# Altium integrated library Resistors-potenciometers.IntLib: 402 symbols (part 3 of 5)
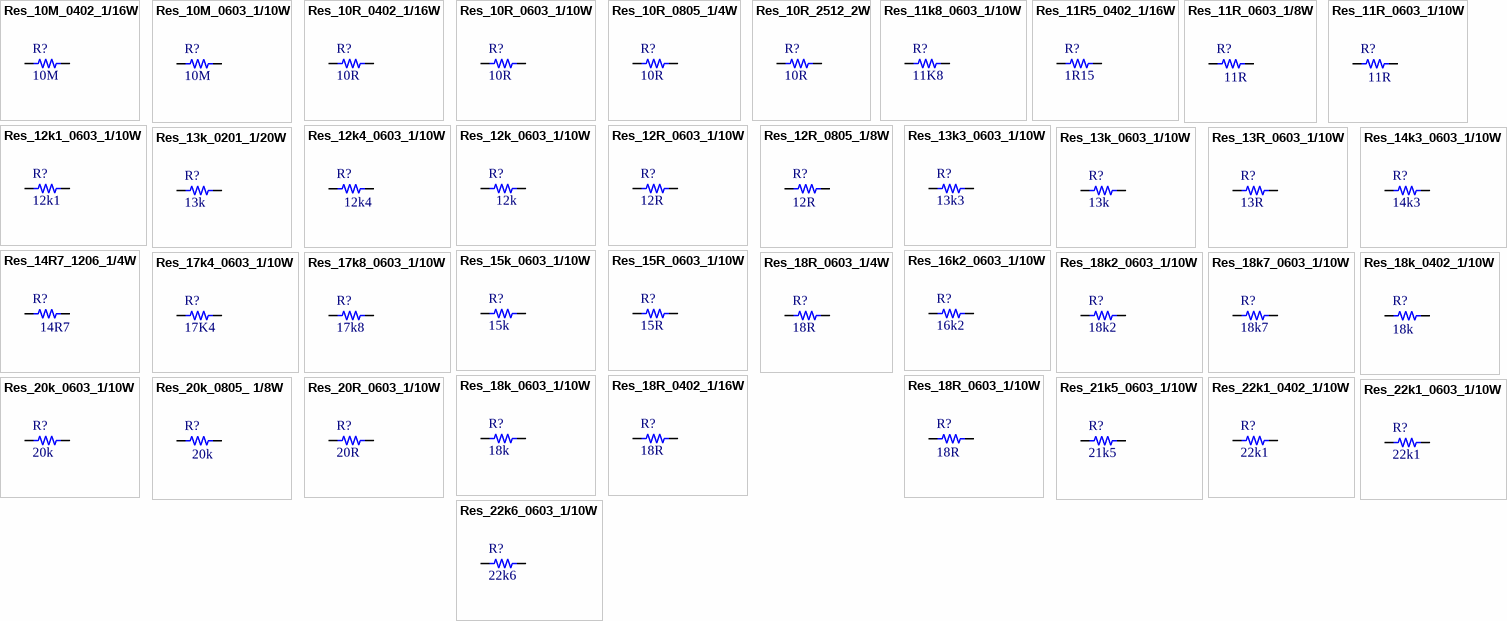
[diagram p12: symbols Res_10M_0402_1/16W to Res_22k6_0603_1/10W]

## Res_13k_0201_1/20W
designator R?, comment value 13k  (hidden comment: 13k 1/20W)
RES SMD 13K OHM 1% 1/20W 0201; Manufacturer: YAGEO; Manufacturer Part Number: AC0201FR-0713KL; Supplier 1: DIGI-KEY; Supplier Part Number 1: YAG5154CT-ND; Reel Stock: N/A; Last modified by: J.Jaramillo; Last modified date: 20240310; ComponentLink1Description: Digi-Key; ComponentLink1URL: https://www.digikey.com/en/products/detail/yageo/AC0201FR-0713KL/5894273?s=N4IgTCBcDaIJoEEDiBWAjCgLAYQCoFoA5AERAF0BfIA
footprint 0201 (20211214 / A-F.Romo)
pins: 1, 2

## Res_13k_0603_1/10W
designator R?, comment value 13k  (hidden comment: 13k 1/10W)
RES 13K OHM 1% 1/10W 0603; Manufacturer: Stackpole Electronics Inc; Manufacturer Part Number: RMCF0603FT13K0; Supplier 1: Digi-Key; Supplier Part Number 1: RMCF0603FT13K0CT-ND; Reel Stock: N/A; Last modified by: J.Jaramillo; Last modified date: 20240310; ComponentLink1Description: Digi-Key; ComponentLink1URL: https://www.digikey.com/product-detail/en/stackpole-electronics-inc/RMCF0603FT13K0/RMCF0603FT13K0CT-ND/1943065
footprint 0603 (1608 Metric / 20190222 / N-A.Potosi)
pins: 1, 2

## Res_13R_0603_1/10W
designator R?, comment value 13R  (hidden comment: 13R 1/10W)
RES 13 OHM 1% 1/10W 0603; Manufacturer: YAGEO; Manufacturer Part Number: RC0603FR-0713RL; Supplier 1: Digi-Key; Supplier Part Number 1: 311-13.0HRCT-ND; Reel Stock: N/A; Last modified by: J.Jaramillo; Last modified date: 20240310; ComponentLink1Description: Digi-Key; ComponentLink1URL: https://www.digikey.com/en/products/detail/yageo/RC0603FR-0713RL/726928
footprint 0603 (1608 Metric / 20190222 / N-A.Potosi)
pins: 1, 2

## Res_14k3_0603_1/10W
designator R?, comment value 14k3  (hidden comment: 14k3 1/10 W)
RES SMD 14.3K OHM 1% 1/10W 0603; Manufacturer: Yageo; Manufacturer Part Number: RC0603FR-0714K3L; Supplier 1: Digi-Key; Supplier Part Number 1: 311-14.3KHRCT-ND; Reel Stock: N/A; Last modified by: J.Jaramillo; Last modified date: 20240310; ComponentLink1Description: Digi-key; ComponentLink1URL: https://www.digikey.com/product-detail/en/yageo/RC0603FR-0714K3L/311-14.3KHRCT-ND/729890
footprint 0603
pins: 1, 2

## Res_14R7_1206_1/4W
designator R?, comment value 14R7  (hidden comment: 14R7 1/4W)
RES 14.7 OHM 1% 1/4W 1206; Manufacturer: KOA Speer Electronics, Inc.; Manufacturer Part Number: RK73H2BTTD14R7F; Supplier 1: Digi-Key; Supplier Part Number 1: 2019-RK73H2BTTD14R7FCT-ND; Reel Stock: N/A; Last modified by: J.Jaramillo; Last modified date: 20240310; ComponentLink1Description: Digi-Key; ComponentLink1URL: *
footprint 1206_0.8mm (3216 metric/20230303/J-A.Sepulveda)
pins: 1, 2

## Res_15k_0603_1/10W
designator R?, comment value 15k  (hidden comment: 15k 1/10W)
RES SMD 15K OHM 1% 1/10W 0603; Manufacturer: Yageo; Manufacturer Part Number: RC0603FR-0715KL; Supplier 1: Digi-Key; Supplier Part Number 1: 311-15.0KHRCT-ND; Reel Stock: N/A; Last modified by: J.Jaramillo; Last modified date: 20240310; ComponentLink1Description: Digi-Key; ComponentLink1URL: https://www.digikey.com/product-detail/en/yageo/RC0603FR-0715KL/311-15.0KHRTR-ND/726953
footprint 0603
pins: 1, 2

## Res_15R_0603_1/10W
designator R?, comment value 15R  (hidden comment: 15R 1/10W)
RES SMD 15 OHM 1% 1/10W 0603; Manufacturer: Yageo; Manufacturer Part Number: RC0603FR-0715RL; ComponentLink1URL: https://www.digikey.com/en/products/detail/yageo/RC0603FR-0715RL/726952?s=N4IgTCBcDaIEoGEAMA2JBmAYnAtEg7AIwCscAMiALoC%2BQA; Reel Stock: N/A; Last modified by: J.Jaramillo; Last modified date: 20240310; ComponentLink1Description: Digi-key; Supplier 1: Digi-Key; Supplier Part Number 1: 311-15.0HRCT-ND
footprint 0603
pins: 1, 2

## Res_16k2_0603_1/10W
designator R?, comment value 16k2  (hidden comment: 16k2 1/10W)
RES SMD 16.2K OHM 1% 1/10W 0603; Manufacturer: Yageo; Manufacturer Part Number: RC0603FR-0716K2L; Supplier 1: Digi-key; Supplier Part Number 1: 311-16.2KHRCT-ND; Reel Stock: N/A; Last modified by: J.Jaramillo; Last modified date: 20240310; ComponentLink1Description: Digi-key; ComponentLink1URL: https://www.digikey.com/product-detail/en/yageo/RC0603FR-0716K2L/311-16.2KHRCT-ND/729914
footprint 0603 (1608 Metric / 20190222 / N-A.Potosi)
pins: 1, 2

## Res_17k4_0603_1/10W
designator R?, comment value 17K4  (hidden comment: 1/10W)
RES 17.4K OHM 1% 1/10W 0603; Manufacturer: Stackpole Electronics Inc; Manufacturer Part Number: RMCF0603FT17K4; Reel Stock: N/A; Last modified by: J.Jaramillo; Last modified date: 20240310; ComponentLink1Description: Digi-Key; ComponentLink1URL: https://www.digikey.com/en/products/detail/stackpole-electronics-inc/RMCF0603FT17K4/1761040; Supplier 1: Digi-Key; Supplier Part Number 1: RMCF0603FT17K4CT-ND
footprint 0603
pins: 1, 2

## Res_17k8_0603_1/10W
designator R?, comment value 17k8  (hidden comment: 17k8 1/10W)
RES SMD 17.8K OHM 1% 1/10W 0603; Manufacturer: Panasonic Electronic Components; Manufacturer Part Number: ERJ-3EKF1782V; Reel Stock: N/A; Last modified by: J.Jaramillo; Last modified date: 20240310; ComponentLink1Description: Digi-key; ComponentLink1URL: https://www.digikey.com/products/en?keywords=P17.8KHCT-ND; Supplier 1: Digi-Key; Supplier Part Number 1: P17.8KHCT-ND
footprint 0603 (1608 Metric / 20190222 / N-A.Potosi)
pins: 1, 2

## Res_18k2_0603_1/10W
designator R?, comment value 18k2  (hidden comment: 18k2 1/10W)
RES 18.2K OHM 1% 1/10W 0603; Manufacturer: Stackpole Electronics Inc; Manufacturer Part Number: RMCF0603FT18K2; Supplier 1: Digi-Key; Supplier Part Number 1: RMCF0603FT18K2CT-ND; Reel Stock: N/A; Last modified by: J.Jaramillo; Last modified date: 20240310; ComponentLink1Description: Digi-Key; ComponentLink1URL: https://www.digikey.com/en/products/detail/stackpole-electronics-inc/RMCF0603FT18K2/1761004
footprint 0603 (1608 Metric / 20190222 / N-A.Potosi)
pins: 1, 2

## Res_18k7_0603_1/10W
designator R?, comment value 18k7  (hidden comment: 18k7 1/10W)
RES 18.7K OHM 1% 1/10W 0603; Manufacturer: Stackpole Electronics Inc; Manufacturer Part Number: RMCF0603FT18K7; Supplier 1: Digi-Key; Supplier Part Number 1: RMCF0603FT18K7CT-ND; Reel Stock: N/A; Last modified by: J.Jaramillo; Last modified date: 20240310; ComponentLink1Description: Digi-key; ComponentLink1URL: https://www.digikey.com/product-detail/en/stackpole-electronics-inc/RMCF0603FT18K7/RMCF0603FT18K7CT-ND/2417955
footprint 0603 (1608 Metric / 20190222 / N-A.Potosi)
pins: 1, 2

## Res_18k_0402_1/10W
designator R?, comment value 18k  (hidden comment: 18k 1/10W)
RES 18K OHM 1% 1/10W 0402; Manufacturer: KOA Speer Electronics, Inc.; Manufacturer Part Number: RK73H1ETTP1802F; ComponentLink1URL: https://www.digikey.com/product-detail/en/koa-speer-electronics-inc/RK73H1ETTP1802F/2019-RK73H1ETTP1802FCT-ND/9846178; Supplier 1: Digi-key; Supplier Part Number 1: 2019-RK73H1ETTP1802FCT-ND; Reel Stock: N/A; Last modified by: J.Jaramillo; Last modified date: 20240310; ComponentLink1Description: Digi-key
footprint 0402
footprint 0402_RF
footprint 0402_RF2 (1005 Metric / 20190222 / N-A.Potosi)
pins: 1, 2

## Res_18k_0603_1/10W
designator R?, comment value 18k  (hidden comment: 18k 1/10W)
RES SMD 18K OHM 1% 1/10W 0603; Manufacturer Part Number: RC0603FR-0718KL; Manufacturer: Yageo; Reel Stock: N/A; Last modified by: J.Jaramillo; Last modified date: 20240310; ComponentLink1Description: Digi-Key; ComponentLink1URL: https://www.digikey.com/en/products/detail/yageo/RC0603FR-0718KL/726989?s=N4IgTCBcDaIEoGEAMA2JBmAYnAtEg7AIwAcA0gDIgC6AvkA; Supplier 1: Digi-Key; Supplier Part Number 1: 311-18.0KHRCT-ND
footprint 0603
pins: 1, 2

## Res_18R_0402_1/16W
designator R?, comment value 18R  (hidden comment: 18R 1/16W)
RES SMD 18 OHM 1% 1/16W 0402; Manufacturer: Yageo; Manufacturer Part Number: RC0402FR-0718RL; Supplier 1: Digikey; Supplier Part Number 1: YAG3021CT-ND; Reel Stock: N/A; Last modified by: J.Jaramillo; Last modified date: 20240310; ComponentLink1Description: Digikey; ComponentLink1URL: https://www.digikey.com/en/products/detail/yageo/RC0402FR-0718RL/5280881
footprint 0402 (1005 Metric / 20190222 / N-A.Potosi)
footprint 0402_RF (1005 Metric / 20190222 / N-A.Potosi)
footprint 0402_RF2 (1005 Metric / 20190222 / N-A.Potosi)
pins: 1, 2

## Res_18R_0603_1/4W
designator R?, comment value 18R  (hidden comment: 18R 1/4W)
RES SMD 18 OHM 5% 1/4W 0603; Manufacturer: Rohm Semiconductor; Manufacturer Part Number: ESR03EZPJ180; Supplier 1: Digi-Key; Supplier Part Number 1: RHM18DCT-ND; Reel Stock: N/A; Last modified by: J.Jaramillo; Last modified date: 20240310; ComponentLink1Description: Digi-Key; ComponentLink1URL: https://www.digikey.com/en/products/detail/rohm-semiconductor/ESR03EZPJ180/4051203
footprint 0603 (1608 Metric / 20190222 / N-A.Potosi)
pins: 1, 2

## Res_18R_0603_1/10W
designator R?, comment value 18R  (hidden comment: 18R 1/10W)
RES SMD 18 OHM 1% 1/10W 0603; Manufacturer Part Number: RC0603FR-0718RL; Manufacturer: Yageo; ComponentLink1URL: https://www.digikey.com/en/products/detail/yageo/RC0603FR-0718RL/726988?s=N4IgTCBcDaIEoGEAMA2JBmAYnAtEg7AIwAccAMiALoC%2BQA; Reel Stock: N/A; Last modified by: J.Jaramillo; Last modified date: 20240310; ComponentLink1Description: Digi-key; Supplier 1: Digi-Key; Supplier Part Number 1: 311-18.0HRCT-ND
footprint 0603
pins: 1, 2

## Res_20k_0603_1/10W
designator R?, comment value 20k  (hidden comment: 20k 1/10W)
RES SMD 20K OHM 1% 1/10W 0603; Manufacturer: Yageo; Manufacturer Part Number: RC0603FR-0720KL; Reel Stock: N/A; Last modified by: J.Jaramillo; Last modified date: 20240310; ComponentLink1Description: Digi-Key; ComponentLink1URL: https://www.digikey.com/en/products/detail/yageo/RC0603FR-0720KL/727040?s=N4IgTCBcDaIEoGEAMA2JBmAYnAtEg7GEgNIAyIAugL5A; Supplier 1: Digi-Key; Supplier Part Number 1: 311-20.0KHRCT-ND
footprint 0603
pins: 1, 2

## Res_20k_0805_ 1/8W
designator R?, comment value 20k  (hidden comment: 20k_ 1/8W)
RES 20K OHM 1% 1/8W 0805; Manufacturer: YAGEO; Manufacturer Part Number: RC0805FR-0720KL; Supplier 1: Digi-Key; Supplier Part Number 1: 311-20.0KCRCT-ND; Reel Stock: N/A; Last modified by: J.Jaramillo; Last modified date: 20240310; ComponentLink1Description: Digi-key; ComponentLink1URL: https://www.digikey.com/en/products/detail/yageo/RC0805FR-0720KL/727720
footprint 0805_M (2012 Metric / 20200129/ V-A.Patino)
pins: 1, 2

## Res_20R_0603_1/10W
designator R?, comment value 20R  (hidden comment: 20R 1/10W)
RES SMD 20 OHM 1% 1/10W 0603; Manufacturer: Yageo; Manufacturer Part Number: RC0603FR-0720RL; Supplier 1: Digi-Key; Supplier Part Number 1: 311-20.0HRCT-ND; Reel Stock: N/A; Last modified by: J.Jaramillo; Last modified date: 20240310; ComponentLink1Description: Digi-Key; ComponentLink1URL: https://www.digikey.com/product-detail/en/yageo/RC0603FR-0720RL/311-20-0HRCT-ND/729986
footprint 0603 (1608 Metric / 20190222 / N-A.Potosi)
pins: 1, 2

## Res_21k5_0603_1/10W
designator R?, comment value 21k5  (hidden comment: 21k5 1/10W)
RES SMD 21.5K OHM 1% 1/10W 0603; Manufacturer: Bourns Inc.; Manufacturer Part Number: CR0603-FX-2152ELF; Supplier 1: Digi-Key; Supplier Part Number 1: CR0603-FX-2152ELFCT-ND; Reel Stock: N/A; Last modified by: J.Jaramillo; Last modified date: 20240310; ComponentLink1Description: Digi-Key; ComponentLink1URL: https://www.digikey.com/product-detail/en/bourns-inc/CR0603-FX-2152ELF/CR0603-FX-2152ELFCT-ND/4247742
footprint 0603
pins: 1, 2

## Res_22k1_0402_1/10W
designator R?, comment value 22k1  (hidden comment: 22k1 1/10W)
RES 22.1K OHM 1% 1/10W 0402; Manufacturer: KOA Speer Electronics, Inc.; Manufacturer Part Number: RK73H1ETTP2212F; ComponentLink1URL: https://www.digikey.com/product-detail/en/koa-speer-electronics-inc/RK73H1ETTP2212F/2019-RK73H1ETTP2212FCT-ND/9846153; Supplier 1: Digi-key; Supplier Part Number 1: 2019-RK73H1ETTP2212FCT-ND; Reel Stock: N/A; Last modified by: J.Jaramillo; Last modified date: 20240310; ComponentLink1Description: Digi-key
footprint 0402
footprint 0402_RF
footprint 0402_RF2 (1005 Metric / 20190222 / N-A.Potosi)
pins: 1, 2

## Res_22k1_0603_1/10W
designator R?, comment value 22k1  (hidden comment: 22k1 1/10W)
RES 22.1K OHM 1% 1/10W 0603; Manufacturer: YAGEO; Manufacturer Part Number: RC0603FR-0722K1L; Supplier 1: Digi-Key; Supplier Part Number 1: 311-22.1KHRCT-ND; Reel Stock: N/A; Last modified by: J.Jaramillo; Last modified date: 20240310; ComponentLink1Description: Digi-Key; ComponentLink1URL: https://www.digikey.com/en/products/detail/yageo/RC0603FR-0722K1L/727058?s=N4IgTCBcDaIEoGEAMA2JBmAYnAtEg7GGANICMAMiALoC%2BQA
footprint 0603 (1608 Metric / 20190222 / N-A.Potosi)
pins: 1, 2

## Res_22k6_0603_1/10W
designator R?, comment value 22k6  (hidden comment: 22k6 1/10W)
RES 22.6K OHM 1% 1/10W 0603; Manufacturer: Stackpole Electronics Inc; Manufacturer Part Number: RMCF0603FT22K6; Supplier 1: Digi-Key; Supplier Part Number 1: RMCF0603FT22K6CT-ND; Reel Stock: N/A; Last modified by: J.Jaramillo; Last modified date: 20240310; ComponentLink1Description: Digi-Key; ComponentLink1URL: https://www.digikey.com/product-detail/en/stackpole-electronics-inc/RMCF0603FT22K6/RMCF0603FT22K6CT-ND/1943078
footprint 0603 (1608 Metric / 20190222 / N-A.Potosi)
pins: 1, 2

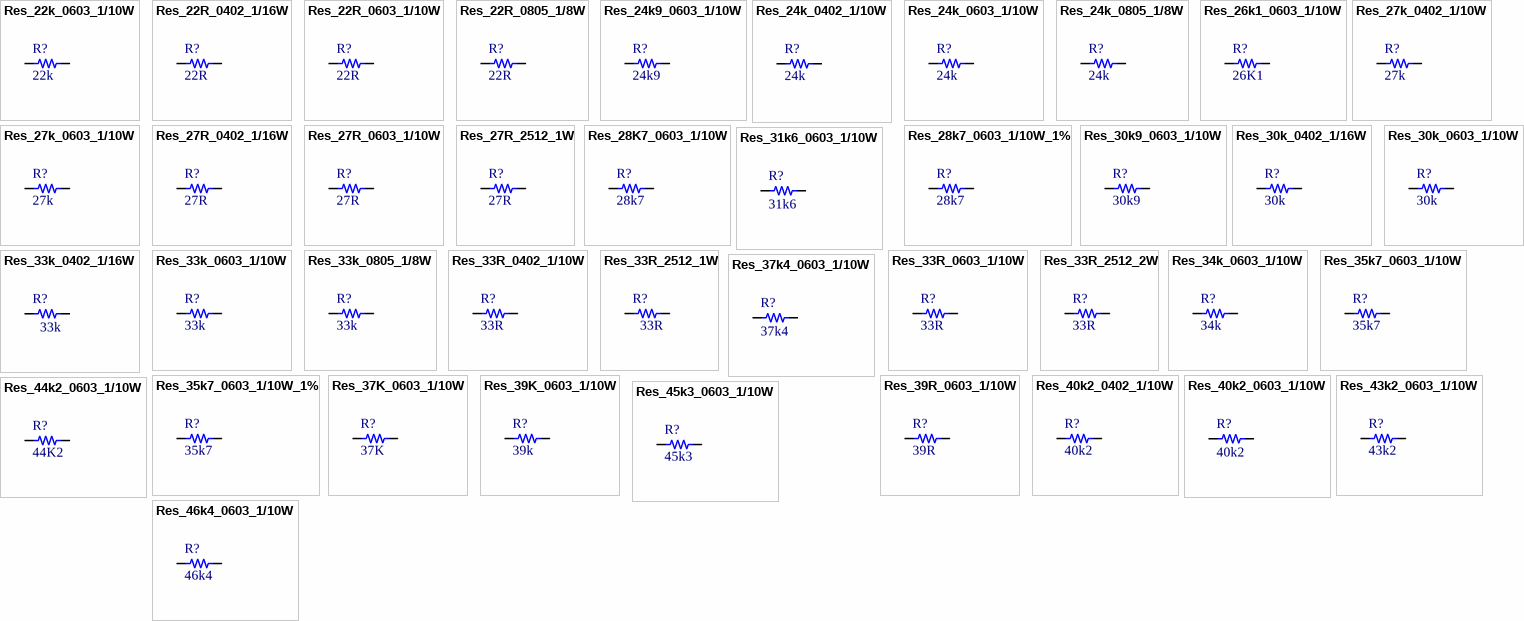
[diagram p5: symbols Res_22k_0603_1/10W to Res_46k4_0603_1/10W]

## Res_22k_0603_1/10W
designator R?, comment value 22k  (hidden comment: 22k 1/10W)
RES SMD 22K OHM 1% 1/10W 0603; Manufacturer: Yageo; Manufacturer Part Number: RC0603FR-0722KL; Reel Stock: N/A; Last modified by: J.Jaramillo; Last modified date: 20240310; ComponentLink1Description: Digi-Key; ComponentLink1URL: https://www.digikey.com/en/products/detail/yageo/RC0603FR-0722KL/727056?s=N4IgTCBcDaIEoGEAMA2JBmAYnAtEg7GGANIAyIAugL5A; Supplier 1: Digi-Key; Supplier Part Number 1: 311-22.0KHRCT-ND
footprint 0603
pins: 1, 2

## Res_22R_0402_1/16W
designator R?, comment value 22R  (hidden comment: 22R 1/16W)
RES 22 OHM 1% 1/16W 0402; Manufacturer: Stackpole Electronics; Manufacturer Part Number: RMCF0402FT22R0; ComponentLink1URL: https://www.digikey.com/products/en?keywords=1276-3480-1-ND; Reel Stock: N/A; Last modified by: J.Jaramillo; Last modified date: 20240310; ComponentLink1Description: Digi-key; Supplier Part Number 1: RMCF0402FT22R0CT-ND; Supplier 1: Digi-Key
footprint 0402
footprint 0402_RF
footprint 0402_RF2 (1005 Metric / 20190222 / N-A.Potosi)
pins: 1, 2

## Res_22R_0603_1/10W
designator R?, comment value 22R  (hidden comment: 22R 1//10W)
RES SMD 22 OHM 1% 1/10W 0603; Manufacturer: Panasonic Electronic Components; Manufacturer Part Number: ERJ-3EKF22R0V; Supplier 1: Digi-Key; Supplier Part Number 1: P22.0HCT-ND; Reel Stock: N/A; Last modified by: J.Jaramillo; Last modified date: 20240310; ComponentLink1Description: Digi-Key; ComponentLink1URL: https://www.digikey.com/product-detail/en/panasonic-electronic-components/ERJ-3EKF22R0V/P22-0HCT-ND/1746745
footprint 0603 (1608 Metric / 20190222 / N-A.Potosi)
pins: 1, 2

## Res_22R_0805_1/8W
designator R?, comment value 22R  (hidden comment: 22R 1/8W)
RES SMD 22 OHM 1% 1/8W 0805; Manufacturer: Yageo; Manufacturer Part Number: RC0805FR-0722RL; Reel Stock: N/A; Last modified by: J.Jaramillo; Last modified date: 20240310; ComponentLink1Description: Digi-Key; ComponentLink1URL: https://www.digikey.com/en/products/detail/yageo/RC0805FR-0722RL/727735?s=N4IgTCBcDaIEoGEAMAOJBWAYnAtEg7GGHADIgC6AvkA; Supplier 1: Digi-Key; Supplier Part Number 1: 311-22.0CRCT-ND
footprint 0805 (2012 Metric / 20190221 / C-A.Serna.A)
footprint 0805_M (2012 Metric / 20200129/ V-A.Patino)
pins: 1, 2

## Res_24k9_0603_1/10W
designator R?, comment value 24k9  (hidden comment: 24.9k 1/10W)
RES 24.9K OHM 1% 1/10W 0603; Manufacturer: Stackpole Electronics Inc.; Manufacturer Part Number: RMCF0603FT24K9; Supplier 1: Digi-Key; Supplier Part Number 1: RMCF0603FT24K9CT-ND; Reel Stock: N/A; Last modified by: J.Jaramillo; Last modified date: 20240310; ComponentLink1Description: Digi-Key; ComponentLink1URL: https://www.digikey.com/product-detail/en/stackpole-electronics-inc/RMCF0603FT24K9/RMCF0603FT24K9CT-ND/1943081
footprint 0603
pins: 1, 2

## Res_24k_0402_1/10W
designator R?, comment value 24k  (hidden comment: 24k 1/10W)
RES 24K OHM 1% 1/10W 0402; Manufacturer: KOA Speer Electronics, Inc.; Manufacturer Part Number: RK73H1ETTP2402F; ComponentLink1URL: https://www.digikey.com/product-detail/en/koa-speer-electronics-inc/RK73H1ETTP2402F/2019-RK73H1ETTP2402FCT-ND/9846406; Supplier 1: Digi-key; Supplier Part Number 1: 2019-RK73H1ETTP2402FCT-ND; Reel Stock: N/A; Last modified by: J.Jaramillo; Last modified date: 20240310; ComponentLink1Description: Digi-key
footprint 0402
footprint 0402_RF
footprint 0402_RF2 (1005 Metric / 20190222 / N-A.Potosi)
pins: 1, 2

## Res_24k_0603_1/10W
designator R?, comment value 24k  (hidden comment: 24k 1/10W)
RES 24K OHM 1% 1/10W 0603; Manufacturer: KOA Speer Electronics, Inc.; Manufacturer Part Number: RK73H1JTTD2402F; Supplier 1: Digi-Key; Supplier Part Number 1: 2019-RK73H1JTTD2402FCT-ND; Reel Stock: N/A; Last modified by: J.Jaramillo; Last modified date: 20240310; ComponentLink1Description: Digi-Key; ComponentLink1URL: https://www.digikey.com/product-detail/en/koa-speer-electronics-inc/RK73H1JTTD2402F/2019-RK73H1JTTD2402FCT-ND/9847008
footprint 0603 (1608 Metric / 20190222 / N-A.Potosi)
pins: 1, 2

## Res_24k_0805_1/8W
designator R?, comment value 24k  (hidden comment: 24k 1/8W)
RES 24K OHM 5% 1/8W 0805; Manufacturer: Panasonic Electronic Components; Manufacturer Part Number: ERJ-6GEYJ243V; Supplier 1: Digi-Key; Supplier Part Number 1: P24KACT-ND; Reel Stock: N/A; Last modified by: J.Jaramillo; Last modified date: 20240310; ComponentLink1Description: Digi-Key; ComponentLink1URL: https://www.digikey.com/product-detail/en/panasonic-electronic-components/ERJ-6GEYJ243V/P24KACT-ND/81787
footprint 0805 (2012 metric/ 20190327 / V-A.Patino)
footprint 0805_M (2012 Metric / 20200129/ V-A.Patino)
pins: 1, 2

## Res_26k1_0603_1/10W
designator R?, comment value 26K1  (hidden comment: 1/10W)
RES SMD 26.1K OHM 1% 1/10W 0603; Manufacturer: Yageo; Manufacturer Part Number: AC0603FR-0726K1L; Reel Stock: N/A; Last modified by: J.Jaramillo; Last modified date: 20240310; ComponentLink1Description: Digi-Key; ComponentLink1URL: https://www.digikey.com/en/products/detail/yageo/AC0603FR-0726K1L/5895956; Supplier 1: Digi-Key; Supplier Part Number 1: 13-AC0603FR-0726K1LCT-ND
footprint 0603
pins: 1, 2

## Res_27k_0402_1/10W
designator R?, comment value 27k  (hidden comment: 27k 1/10W)
RES 27K OHM 1% 1/10W 0402; Manufacturer: KOA Speer Electronics, Inc.; Manufacturer Part Number: RK73H1ETTP2702F; ComponentLink1URL: https://www.digikey.com/product-detail/en/koa-speer-electronics-inc/RK73H1ETTP2702F/2019-RK73H1ETTP2702FCT-ND/9846267; Supplier 1: Digi-key; Supplier Part Number 1: 2019-RK73H1ETTP2702FCT-ND; Reel Stock: N/A; Last modified by: J.Jaramillo; Last modified date: 20240310; ComponentLink1Description: Digi-key
footprint 0402
footprint 0402_RF
footprint 0402_RF2 (1005 Metric / 20190222 / N-A.Potosi)
pins: 1, 2

## Res_27k_0603_1/10W
designator R?, comment value 27k  (hidden comment: 27k 1/10W)
RES SMD 22K OHM 1% 1/10W 0603; Manufacturer: Yageo; Manufacturer Part Number: RC0603FR-0727KL; Reel Stock: N/A; Last modified by: J.Jaramillo; Last modified date: 20240310; ComponentLink1Description: Digi-Key; ComponentLink1URL: https://www.digikey.com/en/products/detail/yageo/RC0603FR-0727KL/727100?s=N4IgTCBcDaIEoGEAMA2JBmAYnAtEg7GPgNIAyIAugL5A; Supplier 1: Digi-Key; Supplier Part Number 1: 311-27.0KHRCT-ND
footprint 0603
pins: 1, 2

## Res_27R_0402_1/16W
designator R?, comment value 27R  (hidden comment: 27R 1/16W)
RES SMD 27 OHM 1% 1/16W 0402; Manufacturer: Yageo; Manufacturer Part Number: RC0402FR-0727RL; Supplier 1: Digi-Key; Supplier Part Number 1: YAG3086CT-ND; Reel Stock: N/A; Last modified by: J.Jaramillo; Last modified date: 20240310; ComponentLink1Description: Digi-Key; ComponentLink1URL: digikey.com/en/products/detail/yageo/RC0402FR-0727RL/5280946
footprint 0402 (1005 Metric / 20190222 / N-A.Potosi)
footprint 0402_RF (1005 Metric / 20190222 / N-A.Potosi)
footprint 0402_RF2 (1005 Metric / 20190222 / N-A.Potosi)
pins: 1, 2

## Res_27R_0603_1/10W
designator R?, comment value 27R  (hidden comment: 27R 1/10W)
RES 27 OHM 1% 1/10W 0603; Manufacturer: Stackpole Electronics; Manufacturer Part Number: RMCF0603FT27R0; Reel Stock: N/A; Last modified by: J.Jaramillo; Last modified date: 20240310; ComponentLink1Description: Digi-Key; ComponentLink1URL: https://www.digikey.com/en/products/detail/stackpole-electronics-inc/RMCF0603FT27R0/1760818?s=N4IgTCBcDaIEoFkDCAxADANjQZhQFTAHY40QBdAXyA; Supplier 1: Digi-Key; Supplier Part Number 1: RMCF0603FT27R0CT-ND
footprint 0603
pins: 1, 2

## Res_27R_2512_1W
designator R?, comment value 27R  (hidden comment: 27R 1W)
RES 27 OHM 5% 1W 2512; Manufacturer: Stackpole Electronics Inc; Manufacturer Part Number: RMCF2512JT27R0; Supplier 1: Digi-Key; Supplier Part Number 1: RMCF2512JT27R0CT-ND; Reel Stock: N/A; Last modified by: J.Jaramillo; Last modified date: 20240310; ComponentLink1Description: Digi-Key; ComponentLink1URL: https://www.digikey.com/product-detail/en/stackpole-electronics-inc/RMCF2512JT27R0/RMCF2512JT27R0CT-ND/4425469
footprint 2512 (6432 metric/ 20190613/ J-P.Vargas.A)
pins: 1, 2

## Res_28K7_0603_1/10W
designator R?, comment value 28k7  (hidden comment: 28k7 1/10W)
RES SMD 28.7KOHM 0.1% 1/10W 0603; Manufacturer: Yageo; Manufacturer Part Number: RT0603BRD0728K7L; Supplier 1: Digi-Key; Supplier Part Number 1: YAG4519CT-ND; Reel Stock: N/A; Last modified by: J.Jaramillo; Last modified date: 20240310; ComponentLink1Description: Digi-Key; ComponentLink1URL: https://www.digikey.com/product-detail/en/yageo/RT0603BRD0728K7L/YAG4519CT-ND/6616675
footprint 0603
pins: 1, 2

## Res_28k7_0603_1/10W_1%
designator R?, comment value 28k7  (hidden comment: 28k7 1/10W)
RES SMD 28.7K OHM 1% 1/10W 0603; Manufacturer: Yageo; Manufacturer Part Number: RC0603FR-0728K7L; Supplier 1: Digi-Key; Supplier Part Number 1: 311-28.7KHRCT-ND; Reel Stock: N/A; Last modified by: J.Jaramillo; Last modified date: 20240310; ComponentLink1Description: Digikey; ComponentLink1URL: https://www.digikey.com/en/products/detail/yageo/RC0603FR-0728K7L/727110?s=N4IgTCBcDaIEoGEAMA2JBmAYnAtEg7GABwDS%2BAMiALoC%2BQA
footprint 0603 (1608 Metric / 20190222 / N-A.Potosi)
pins: 1, 2

## Res_30k9_0603_1/10W
designator R?, comment value 30k9  (hidden comment: 30k9 1/10W)
RES SMD 30.9K OHM 1% 1/10W 0603; Manufacturer: YAGEO; Manufacturer Part Number: RT0603FRE0730K9L; Supplier 1: Digi-Key; Supplier Part Number 1: 13-RT0603FRE0730K9LCT-ND; Reel Stock: N/A; Last modified by: J.Jaramillo; Last modified date: 20240310; ComponentLink1Description: Digi-Key; ComponentLink1URL: https://www.digikey.com/en/products/detail/yageo/RT0603FRE0730K9L/1075295
footprint 0603 (1608 Metric / 20190222 / N-A.Potosi)
pins: 1, 2

## Res_30k_0402_1/16W
designator R?, comment value 30k  (hidden comment: 30k 1/16W)
RES SMD 30K OHM 1% 1/16W 0402; Manufacturer: Yageo; Manufacturer Part Number: RC0402FR-0730KL; Supplier 1: Digikey; Supplier Part Number 1: 311-30.0KLRCT-ND; Reel Stock: N/A; Last modified by: J.Jaramillo; Last modified date: 20240310; ComponentLink1Description: Digikey; ComponentLink1URL: https://www.digikey.com/en/products/detail/yageo/RC0402FR-0730KL/726586
footprint 0402 (1005 Metric / 20190222 / N-A.Potosi)
footprint 0402_RF (1005 Metric / 20190222 / N-A.Potosi)
footprint 0402_RF2 (1005 Metric / 20190222 / N-A.Potosi)
pins: 1, 2

## Res_30k_0603_1/10W
designator R?, comment value 30k  (hidden comment: 30k 1/10W)
RES SMD 30K OHM 1% 1/10W 0603; Manufacturer: Panasonic Electronic Components; Manufacturer Part Number: ERJ-3EKF3002V; Supplier 1: Digi-Key; Supplier Part Number 1: P30.0KHCT-ND; Reel Stock: N/A; Last modified by: J.Jaramillo; Last modified date: 20240310; ComponentLink1Description: Digi-Key; ComponentLink1URL: https://www.digikey.com/product-detail/en/panasonic-electronic-components/ERJ-3EKF3002V/P30-0KHCT-ND/1746758
footprint 0603 (1608 Metric / 20190222 / N-A.Potosi)
pins: 1, 2

## Res_31k6_0603_1/10W
designator R?, comment value 31k6  (hidden comment: 31k6 1/10W)
RES SMD 31.6K OHM 1% 1/10W 0603; Manufacturer: Vishay Dale; Manufacturer Part Number: CRCW060331K6FKEA; Supplier 1: Digi-Key; Supplier Part Number 1: 541-31.6KHCT-ND; Reel Stock: N/A; Last modified by: J.Jaramillo; Last modified date: 20240310; ComponentLink1Description: Digi-Key; ComponentLink1URL: https://www.digikey.com/en/products/detail/vishay-dale/CRCW060331K6FKEA/1174837
footprint 0603 (1608 Metric / 20190222 / N-A.Potosi)
pins: 1, 2

## Res_33k_0402_1/16W
designator R?, comment value 33k  (hidden comment: 33k 1/16W)
RES 33K OHM 1% 1/16W 0402; Manufacturer: YAGEO; Manufacturer Part Number: RC0402FR-0733KL; Supplier 1: Digi-Key; Supplier Part Number 1: 311-33.0KLRCT-ND; Reel Stock: N/A; Last modified by: J.Jaramillo; Last modified date: 20240310; ComponentLink1Description: Digi-Key; ComponentLink1URL: https://www.digikey.com/en/products/detail/yageo/RC0402FR-0733KL/726592
footprint 0402 (1005 Metric / 20190222 / N-A.Potosi)
footprint 0402_0.2mm (1005 Metric/20230206/J-A.Sepulveda)
footprint 0402_0.4mm (1005 Metric/20230303/J-A.Sepulveda)
footprint 0402_0.6mm (1005 Metric/20230303/J-A.Sepulveda)
footprint 0402_0.8mm (1005 Metric/20230303/J-A.Sepulveda)
footprint 0402_1.0mm (1005 Metric/20230303/J-A.Sepulveda)
pins: 1, 2

## Res_33k_0603_1/10W
designator R?, comment value 33k  (hidden comment: 33k 1/10W)
RES SMD 33K OHM 1% 1/10W 0603; Manufacturer: Panasonic; Manufacturer Part Number: ERJ3EKF3302V; Reel Stock: N/A; Last modified by: J.Jaramillo; Last modified date: 20240310; ComponentLink1Description: Digi-Key; ComponentLink1URL: https://www.digikey.com/en/products/detail/panasonic-electronic-components/ERJ-3EKF3302V/1746378?s=N4IgTCBcDaIKICUBSBmOBpAYilAGMAaiALoC%2BQA; Supplier 1: Digi-Key; Supplier Part Number 1: P33.0KHCT-ND
footprint 0603
pins: 1, 2

## Res_33k_0805_1/8W
designator R?, comment value 33k  (hidden comment: 33k 1/8W)
RES SMD 33K OHM 1% 1/8W 0805; Manufacturer: Yageo; Manufacturer Part Number: RC0805FR-0733KL; Supplier 1: Digi-Key; Supplier Part Number 1: 311-33.0KCRCT-ND; Reel Stock: N/A; Last modified by: J.Jaramillo; Last modified date: 20240310; ComponentLink1Description: Digi-Key; ComponentLink1URL: https://www.digikey.com/product-detail/en/yageo/RC0805FR-0733KL/311-33-0KCRCT-ND/730810
footprint 0805 (2012 metric/ 20190327 / V-A.Patino)
footprint 0805_M (2012 Metric / 20200129/ V-A.Patino)
pins: 1, 2

## Res_33R_0402_1/10W
designator R?, comment value 33R  (hidden comment: 33R 1/10W)
RES SMD 33 OHM 5% 1/10W 0603; Manufacturer: Yageo; Manufacturer Part Number: RC0402FR-0733RL; Supplier 1: Digi-Key; Supplier Part Number 1: 311-33.0LRCT-ND; Reel Stock: N/A; Last modified by: J.Jaramillo; Last modified date: 20240310; ComponentLink1Description: Digi-Key; ComponentLink1URL: https://www.digikey.tw/products/en?keywords=P33GCT-ND
footprint 0402 (1005 Metric / 20190222 / N-A.Potosi)
footprint 0402_RF (1005 Metric / 20190222 / N-A.Potosi)
pins: 1, 2

## Res_33R_0603_1/10W
designator R?, comment value 33R  (hidden comment: 33R 1/10W)
RES SMD 33 OHM 5% 1/10W 0603; Manufacturer: Panasonic Electronic Components; Manufacturer Part Number: ERJ-3GEYJ330V; Supplier 1: Digi-Key; Supplier Part Number 1: P33GCT-ND; Reel Stock: N/A; Last modified by: J.Jaramillo; Last modified date: 20240310; ComponentLink1Description: Digi-Key; ComponentLink1URL: https://www.digikey.com/product-detail/en/panasonic-electronic-components/ERJ-3GEYJ330V/P33GCT-ND/134674
footprint 0603
pins: 1, 2

## Res_33R_2512_1W
designator R?, comment value 33R  (hidden comment: 33R 1W)
CRGCQ 2512 33R 1%; Manufacturer Part Number: CRGCQ2512F33R; Manufacturer: TE Connectivity Passive Product; Reel Stock: N/A; Last modified by: J.Jaramillo; Last modified date: 20240310; ComponentLink1Description: Digi-Key; ComponentLink1URL: https://www.digikey.com/en/products/detail/te-connectivity-passive-product/CRGCQ2512F33R/8576577; Supplier 1: Digi-Key; Supplier Part Number 1: A129975CT-ND
footprint 2512 (6432 metric/ 20190613/ J-P.Vargas.A)
pins: 1, 2

## Res_33R_2512_2W
designator R?, comment value 33R  (hidden comment: 33R 2W)
RES SMD 33 OHM 1% 2W 2512; Manufacturer Part Number: CRM2512-FX-33R0ELF; Manufacturer: Bourns Inc.; Reel Stock: N/A; Last modified by: J.Jaramillo; Last modified date: 20240310; ComponentLink1Description: Digi-Key; ComponentLink1URL: https://www.digikey.com/product-detail/en/bourns-inc/CRM2512-FX-33R0ELF/CRM2512-FX-33R0ELFCT-ND/5775020; Supplier 1: Digi-Key; Supplier Part Number 1: CRM2512-FX-33R0ELFCT-ND
footprint 2512 (6432 metric/ 20190613/ J-P.Vargas.A)
pins: 1, 2

## Res_34k_0603_1/10W
designator R?, comment value 34k  (hidden comment: 34k 1/10W)
RES SMD 34K OHM 1% 1/10W 0603; Manufacturer: Panasonic Electronic Components; Manufacturer Part Number: ERJ-3EKF3402V; Supplier 1: Digi-Key; Supplier Part Number 1: P34.0KHCT-ND; Reel Stock: N/A; Last modified by: J.Jaramillo; Last modified date: 20240310; ComponentLink1Description: Digi-Key; ComponentLink1URL: https://www.digikey.com/en/products/detail/panasonic-electronic-components/ERJ-3EKF3402V/196304
footprint 0603 (1608 Metric / 20190222 / N-A.Potosi)
pins: 1, 2

## Res_35k7_0603_1/10W
designator R?, comment value 35k7  (hidden comment: 35k7 1/10W)
RES SMD 35.7k OHM 0.1% 1/10W 0603; Manufacturer: Yageo; Manufacturer Part Number: RT0603BRD0735K7L; Supplier 1: Digi-Key; Supplier Part Number 1: YAG1642CT-ND; Reel Stock: N/A; Last modified by: J.Jaramillo; Last modified date: 20240310; ComponentLink1Description: Digi-Key; ComponentLink1URL: https://www.digikey.com/product-detail/en/yageo/RT0603BRD0735K7L/YAG1642CT-ND/5139090
footprint 0603
pins: 1, 2

## Res_35k7_0603_1/10W_1%
designator R?, comment value 35k7  (hidden comment: 35k7 1/10W)
RES SMD 35.7K OHM 1% 1/10W 0603; Manufacturer: Yageo; Manufacturer Part Number: RC0603FR-0735K7L; Supplier 1: Digi-Key; Supplier Part Number 1: 311-35.7KHRCT-ND; Reel Stock: N/A; Last modified by: J.Jaramillo; Last modified date: 20240310; ComponentLink1Description: Digikey; ComponentLink1URL: https://www.digikey.com/en/products/detail/yageo/RC0603FR-0735K7L/727175?s=N4IgTCBcDaIEoGEAMA2JBmAYnAtEg7OgKwDS%2BAMiALoC%2BQA
footprint 0603 (1608 Metric / 20190222 / N-A.Potosi)
pins: 1, 2

## Res_37k4_0603_1/10W
designator R?, comment value 37k4  (hidden comment: 37k4 1/10W)
RES SMD 37.4K OHM 1% 1/10W 0603; Manufacturer: Panasonic Electronic Components; Manufacturer Part Number: ERJ-3EKF3742V; Supplier 1: Digi-Key; Supplier Part Number 1: P37.4KHCT-ND; Reel Stock: N/A; Last modified by: J.Jaramillo; Last modified date: 20240310; ComponentLink1Description: Digi-Key; ComponentLink1URL: https://www.digikey.com/en/products/detail/panasonic-electronic-components/ERJ-3EKF3742V/196321
footprint 0603_0.6mm (1608 Metric/20230303/J-A.Sepulveda)
pins: 1, 2

## Res_37K_0603_1/10W
designator R?, comment value 37K  (hidden comment: 37K 1/10W)
RES 37K OHM 1% 1/10W 0603; Manufacturer: KOA Speer Electronics, Inc.; Manufacturer Part Number: RN73R1JTTD3702F100; Supplier 1: Digi-Key; Supplier Part Number 1: 2019-RN73R1JTTD3702F100CT-ND; Reel Stock: N/A; Last modified by: J.Jaramillo; Last modified date: 20240310; ComponentLink1Description: Digi-Key; ComponentLink1URL: https://www.digikey.com/en/products/detail/koa-speer-electronics-inc/RN73R1JTTD3702F100/10016310?s=N4IgjCBcpgnAHLKoDGUBmBDANgZwKYA0IA9lANogAMIAugL7EBMV8ArMiAA4AuUIAVQB2ASx4B5dAFl8mXAFcATvhDF5-ANbiAFgFtcqkLpFD%2BAZgBsAOgDsh3ZgAe5u4xABaJpzSQei%2BUSkFCAcDPT0QA
footprint 0603 (1608 Metric / 20190222 / N-A.Potosi)
pins: 1, 2

## Res_39K_0603_1/10W
designator R?, comment 39K
RES SMD 39k OHM 1% 1/10W 0603; Manufacturer: Yageo; Manufacturer Part Number: AC0603FR-0739KL; Supplier 1: Digi-Key; Supplier Part Number 1: YAG3603CT-ND; Reel Stock: N/A; Last modified by: J.Jaramillo; Last modified date: 20240310; ComponentLink1Description: Digi-Key; ComponentLink1URL: https://www.digikey.com/product-detail/en/yageo/AC0603FR-0739KL/YAG3603TR-ND/5896077; Value: 39k
footprint 0603
pins: 1, 2

## Res_39R_0603_1/10W
designator R?, comment value 39R  (hidden comment: 39R 1/10W)
RES SMD 39 OHM 1% 1/10W 0603; Manufacturer Part Number: RC0603FR-0739RL; Manufacturer: Yageo; Reel Stock: N/A; Last modified by: J.Jaramillo; Last modified date: 20240310; ComponentLink1Description: Digi-Key; ComponentLink1URL: https://www.digikey.com/en/products/detail/yageo/RC0603FR-0739RL/727194?s=N4IgTCBcDaIEoGEAMA2JBmAYnAtEg7OgJxwAyIAugL5A; Supplier 1: Digi-Key; Supplier Part Number 1: 311-39.0HRCT-ND
footprint 0603
pins: 1, 2

## Res_40k2_0402_1/10W
designator R?, comment value 40k2  (hidden comment: 40k2 1/10W)
RES 40.2K OHM 1% 1/10W 0402; Manufacturer: KOA Speer Electronics, Inc.; Manufacturer Part Number: RK73H1ETTP4022F; ComponentLink1URL: https://www.digikey.com/product-detail/en/koa-speer-electronics-inc/RK73H1ETTP4022F/2019-RK73H1ETTP4022FCT-ND/9846161; Supplier 1: Digi-key; Supplier Part Number 1: 2019-RK73H1ETTP4022FCT-ND; Reel Stock: N/A; Last modified by: J.Jaramillo; Last modified date: 20240310; ComponentLink1Description: Digi-key
footprint 0402
footprint 0402_RF
footprint 0402_RF2 (1005 Metric / 20190222 / N-A.Potosi)
pins: 1, 2

## Res_40k2_0603_1/10W
designator R?, comment value 40k2  (hidden comment: 40k2 1/10W)
RES 40.2K OHM 1% 1/10W 0603; Manufacturer: Stackpole Electronics Inc; Manufacturer Part Number: RMCF0603FT40K2; Supplier 1: Digi-Key; Supplier Part Number 1: RMCF0603FT40K2CT-ND; Reel Stock: N/A; Last modified by: J.Jaramillo; Last modified date: 20240310; ComponentLink1Description: Digi-key; ComponentLink1URL: https://www.digikey.com/product-detail/en/stackpole-electronics-inc/RMCF0603FT40K2/RMCF0603FT40K2CT-ND/1943095
footprint 0603 (1608 Metric / 20190222 / N-A.Potosi)
pins: 1, 2

## Res_43k2_0603_1/10W
designator R?, comment value 43k2  (hidden comment: 43k2  1/10W)
RES SMD 43.2K OHM 1% 1/10W 0603; Manufacturer: Panasonic Electronic Components; Manufacturer Part Number: ERJ3EKF4322V; Reel Stock: N/A; Last modified by: J.Jaramillo; Last modified date: 20240310; ComponentLink1Description: Digi-key; ComponentLink1URL: https://www.digikey.com/products/en?keywords=P43.2KHCT-ND; Supplier 1: Digi-Key; Supplier Part Number 1: P43.2KHCT-ND
footprint 0603 (1608 Metric / 20190222 / N-A.Potosi)
pins: 1, 2

## Res_44k2_0603_1/10W
designator R?, comment value 44K2  (hidden comment: 1/10W)
RES 44.2K OHM 1% 1/10W 0603; Manufacturer: Stackpole Electronics Inc; Manufacturer Part Number: RMCF0603FT44K2; Reel Stock: N/A; Last modified by: J.Jaramillo; Last modified date: 20240310; ComponentLink1Description: Digi-Key; ComponentLink1URL: https://www.digikey.com/en/products/detail/stackpole-electronics-inc/RMCF0603FT44K2/1714049; Supplier 1: Digi-Key; Supplier Part Number 1: RMCF0603FT44K2CT-ND
footprint 0603
pins: 1, 2

## Res_45k3_0603_1/10W
designator R?, comment value 45k3  (hidden comment: 45k3 /10W)
RES 45.3K OHM 1% 1/10W 0603; Manufacturer: YAGEO; Manufacturer Part Number: RC0603FR-0745K3L; Supplier 1: Digi-Key; Supplier Part Number 1: 311-45.3KHRCT-ND; Reel Stock: N/A; Last modified by: J.Jaramillo; Last modified date: 20240310; ComponentLink1Description: Digi-Key; ComponentLink1URL: https://www.digikey.com/en/products/detail/yageo/RC0603FR-0745K3L/727245
footprint 0603 (1608 Metric / 20190222 / N-A.Potosi)
pins: 1, 2

## Res_46k4_0603_1/10W
designator R?, comment value 46k4  (hidden comment: 46k4  1/10W)
RES SMD 46.4K OHM 1% 1/10W 0603; Manufacturer: Yageo; Manufacturer Part Number: RC0603FR-0746K4L; Supplier 1: Digi-Key; Supplier Part Number 1: 311-46.4KHRCT-ND; Reel Stock: N/A; Last modified by: J.Jaramillo; Last modified date: 20240310; ComponentLink1Description: Digi-Key; ComponentLink1URL: https://www.digikey.com/en/products/detail/yageo/RC0603FR-0746K4L/727249
footprint 0603 (1608 Metric / 20190222 / N-A.Potosi)
pins: 1, 2

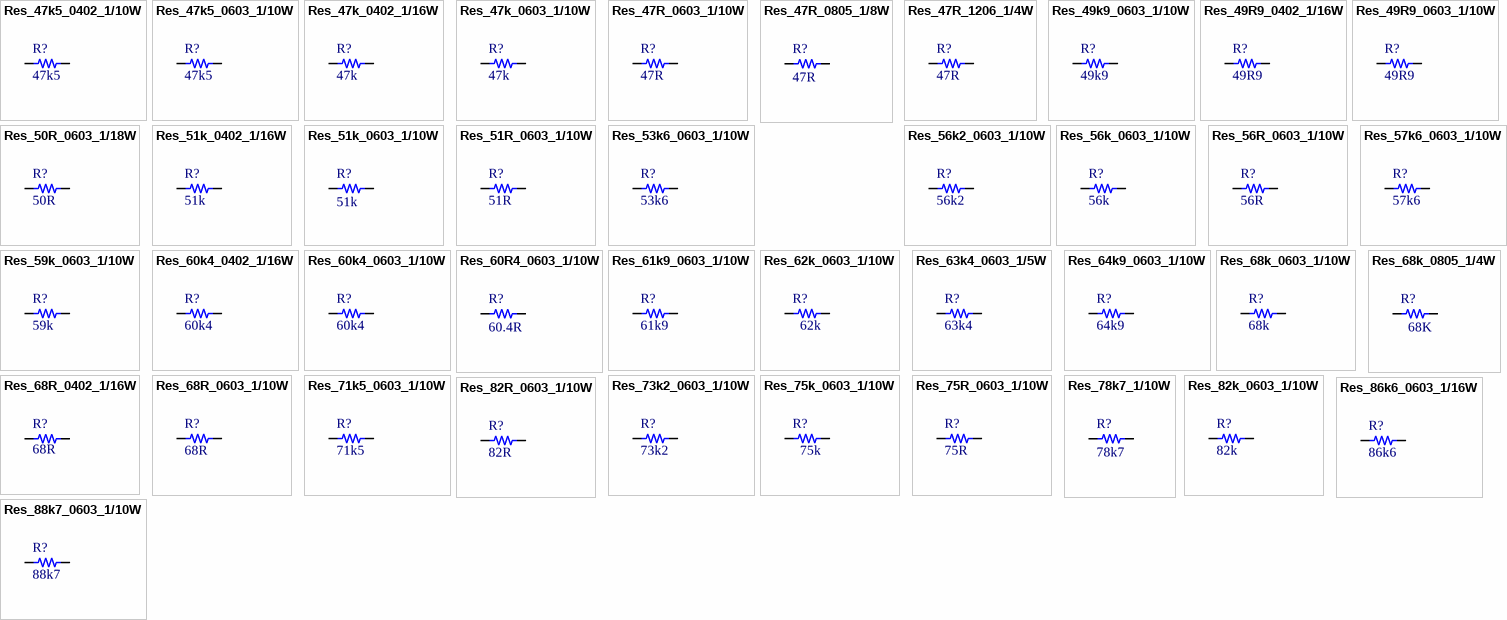
[diagram p6: symbols Res_47k5_0402_1/10W to Res_88k7_0603_1/10W]

## Res_47k5_0402_1/10W
designator R?, comment value 47k5  (hidden comment: 47k5 1/10W)
RES 47.5K OHM 1% 1/10W 0402; Manufacturer: KOA Speer Electronics, Inc.; Manufacturer Part Number: RK73H1ETTP4752F; ComponentLink1URL: https://www.digikey.com/product-detail/en/koa-speer-electronics-inc/RK73H1ETTP4752F/2019-RK73H1ETTP4752FCT-ND/9846155; Supplier 1: Digi-key; Supplier Part Number 1: 2019-RK73H1ETTP4752FCT-ND; Reel Stock: N/A; Last modified by: J.Jaramillo; Last modified date: 20240310; ComponentLink1Description: Digi-key
footprint 0402
footprint 0402_RF
footprint 0402_RF2 (1005 Metric / 20190222 / N-A.Potosi)
pins: 1, 2

## Res_47k5_0603_1/10W
designator R?, comment value 47k5  (hidden comment: 47k5 1/10W)
RES SMD 47.5K OHM 1% 1/10W 0603; Manufacturer: YAGEO; Manufacturer Part Number: AC0603FR-0747K5L; Supplier 1: Digi-Key; Supplier Part Number 1: YAG5340CT-ND; Reel Stock: N/A; Last modified by: J.Jaramillo; Last modified date: 20240310; ComponentLink1Description: Digi-Key; ComponentLink1URL: https://www.digikey.com/en/products/detail/yageo/AC0603FR-0747K5L/5896141
footprint 0603 (1608 Metric / 20190222 / N-A.Potosi)
pins: 1, 2

## Res_47k_0402_1/16W
designator R?, comment value 47k  (hidden comment: 10k 1/16W)
RES SMD 47K OHM 5% 1/16W 0402; Manufacturer: Yageo; Manufacturer Part Number: RC0402JR-0747KL; Supplier 1: Digi-Key; Supplier Part Number 1: 311-47KJRCT-ND; Reel Stock: N/A; Last modified by: J.Jaramillo; Last modified date: 20240310; ComponentLink1Description: Digi-Key; ComponentLink1URL: https://www.digikey.com/product-detail/en/yageo/RC0402JR-0747KL/311-47KJRCT-ND/729432
footprint 0402 (1005 Metric / 20190222 / N-A.Potosi)
footprint 0402_RF (1005 Metric / 20190222 / N-A.Potosi)
footprint 0402_RF2 (1005 Metric / 20190222 / N-A.Potosi)
pins: 1, 2

## Res_47k_0603_1/10W
designator R?, comment value 47k  (hidden comment: 47k  1/10W)
RES SMD 47k OHM 1% 1/10W 0603; Manufacturer: Yageo; Manufacturer Part Number: RC0603FR-0747KL; Supplier 1: Digi-Key; Supplier Part Number 1: 311-47.0KHRCT-ND; Reel Stock: N/A; Last modified by: J.Jaramillo; Last modified date: 20240310; ComponentLink1Description: Digi-Key; ComponentLink1URL: https://www.digikey.com/en/products/detail/yageo/RC0603FR-0747KL/727253?s=N4IgTCBcDaIEoGEAMA2JBmAYnAtEg7ACz4DSAMiALoC%2BQA
footprint 0603
pins: 1, 2

## Res_47R_0603_1/10W
designator R?, comment value 47R  (hidden comment: 47R 1/10W)
RES 47 OHM 1% 1/10W 0603; Manufacturer: Stackpole Electronics; Manufacturer Part Number: RMCF0603FT47R0; Reel Stock: N/A; Last modified by: J.Jaramillo; Last modified date: 20240310; ComponentLink1Description: Digi-Key; ComponentLink1URL: https://www.digikey.com/en/products/detail/stackpole-electronics-inc/RMCF0603FT47R0/1761141?s=N4IgTCBcDaIEoFkDCAxADANjQZhQFQBYB2ONEAXQF8g; Supplier 1: Digi-Key; Supplier Part Number 1: RMCF0603FT47R0CT-ND
footprint 0603
pins: 1, 2

## Res_47R_0805_1/8W
designator R?, comment value 47R  (hidden comment: 47R 1/8W)
RES SMD 47 OHM 1% 1/8W 0805; Manufacturer: Yageo; Manufacturer Part Number: RC0805FR-0747RL; Reel Stock: N/A; Last modified by: J.Jaramillo; Last modified date: 20240310; ComponentLink1Description: Digi-Key; ComponentLink1URL: https://www.digikey.com/en/products/detail/yageo/RC0805FR-0747RL/727972?s=N4IgTCBcDaIEoGEAMAOJBWAYnAtEg7ACz5wAyIAugL5A; Supplier 1: Digi-Key; Supplier Part Number 1: 311-47.0CRCT-ND
footprint 0805 (2012 Metric / 20190221 / C-A.Serna.A)
footprint 0805_M (2012 Metric / 20200129/ V-A.Patino)
pins: 1, 2

## Res_47R_1206_1/4W
designator R?, comment value 47R  (hidden comment: 47R 1/4W)
RES SMD 47 OHM 1% 1/4W 1206; Manufacturer: YAGEO; Manufacturer Part Number: AC1206FR-0747RL; Supplier 1: Digi-Key; Supplier Part Number 1: YAG3881CT-ND; Reel Stock: N/A; Last modified by: J.Jaramillo; Last modified date: 20240310; ComponentLink1Description: Digi-Key; ComponentLink1URL: https://www.digikey.com/en/products/detail/yageo/AC1206FR-0747RL/5897561
footprint 1206 (3216 metric/ 20190327/ V-A.Patino)
pins: 1, 2

## Res_49k9_0603_1/10W
designator R?, comment value 49k9  (hidden comment: 49k9 1/10W)
RES SMD 49.9K OHM 1% 1/10W 0603; Manufacturer: Samsung Electro-Mechanics; Manufacturer Part Number: RC1608F4992CS; Reel Stock: N/A; Last modified by: J.Jaramillo; Last modified date: 20240310; ComponentLink1Description: Digi-key; ComponentLink1URL: https://www.digikey.com/product-detail/en/samsung-electro-mechanics/RC1608F4992CS/1276-4811-1-ND/3967783; Supplier 1: Digi-Key; Supplier Part Number 1: 1276-4811-1-ND
footprint 0603 (1608 Metric / 20190222 / N-A.Potosi)
pins: 1, 2

## Res_49R9_0402_1/16W
designator R?, comment value 49R9  (hidden comment: 49R9 1/16W)
RES SMD 49.9 OHM 1% 1/16W 0402; Manufacturer: Yageo; Manufacturer Part Number: RC0402FR-0749R9L; ComponentLink1URL: https://www.digikey.com/product-detail/en/yageo/RC0402FR-0749R9L/311-49.9LRCT-ND/729568; Supplier 1: Digi-key; Supplier Part Number 1: 311-49.9LRCT-ND; Reel Stock: N/A; Last modified by: J.Jaramillo; Last modified date: 20240310; ComponentLink1Description: Digi-key
footprint 0402
footprint 0402_RF
footprint 0402_RF2 (1005 Metric / 20190222 / N-A.Potosi)
pins: 1, 2

## Res_49R9_0603_1/10W
designator R?, comment value 49R9  (hidden comment: 49R9 1/10W)
RES SMD 49.9k OHM 1% 1/10W 0603; Manufacturer: Yageo; Manufacturer Part Number: RC0603FR-0749R9L; Supplier 1: Digi-Key; Supplier Part Number 1: 311-49.9HRCT-ND; Reel Stock: N/A; Last modified by: J.Jaramillo; Last modified date: 20240310; ComponentLink1Description: Digi-Key; ComponentLink1URL: https://www.digikey.com/en/products/detail/yageo/RC0603FR-0749R9L/727264
footprint 0603
pins: 1, 2

## Res_50R_0603_1/18W
designator R?, comment value 50R  (hidden comment: 50R 1/18W)
RES SMD 50 OHM 0.1% 1/8W 0603; Manufacturer: Vishay Thin Film; Manufacturer Part Number: FC0603E50R0BST1; Supplier 1: Digi-Key; Supplier Part Number 1: FC0603-50BWCT-ND; Reel Stock: N/A; Last modified by: J.Jaramillo; Last modified date: 20240310; ComponentLink1Description: Digi-Key; ComponentLink1URL: https://www.digikey.com/product-detail/en/vishay-thin-film/FC0603E50R0BST1/FC0603-50BWTR-ND/1769755
footprint 0603
pins: 1, 2

## Res_51k_0402_1/16W
designator R?, comment value 51k  (hidden comment: 51k 1/16W)
RES SMD 51k OHM 1% 1/16W 0402; Manufacturer: Yageo; Manufacturer Part Number: RC0402FR-0751KL; ComponentLink1URL: https://www.digikey.com/products/en?keywords=311-51.0KLRCT-ND; Supplier 1: Digi-key; Supplier Part Number 1: 311-51.0KLRCT-ND; Reel Stock: N/A; Last modified by: J.Jaramillo; Last modified date: 20240310; ComponentLink1Description: Digi-key
footprint 0402
footprint 0402_RF
pins: 1, 2

## Res_51k_0603_1/10W
designator R?, comment value 51k  (hidden comment: 51k 1/10W)
RES 51K OHM 1% 1/10W 0603; Manufacturer: Stackpole Electronics Inc; Manufacturer Part Number: RMCF0603FT51K0; Supplier 1: Digi-key; Supplier Part Number 1: RMCF0603FT51K0CT-ND; Reel Stock: N/A; Last modified by: J.Jaramillo; Last modified date: 20240310; ComponentLink1Description: Digi-Key; ComponentLink1URL: https://www.digikey.com/product-detail/en/stackpole-electronics-inc/RMCF0603FT51K0/RMCF0603FT51K0CT-ND/1943102
footprint 0603 (1608 Metric / 20190222 / N-A.Potosi)
pins: 1, 2

## Res_51R_0603_1/10W
designator R?, comment value 51R  (hidden comment: 51R 1/10W)
RES SMD 51 OHM 1% 1/10W 0603; Manufacturer: Yageo; Manufacturer Part Number: RC0603FR-0751RL; Supplier 1: Digi-Key; Supplier Part Number 1: 311-51.0HRCT-ND; Reel Stock: N/A; Last modified by: J.Jaramillo; Last modified date: 20240310; ComponentLink1Description: Digi-Key; ComponentLink1URL: https://www.digikey.com/product-detail/en/yageo/RC0603FR-0751RL/311-51-0HRCT-ND/730228
footprint 0603 (1608 Metric / 20190222 / N-A.Potosi)
pins: 1, 2

## Res_53k6_0603_1/10W
designator R?, comment value 53k6  (hidden comment: 53k6 1/10W)
RES SMD 53.6K OHM 1% 1/10W 0603; Manufacturer: Panasonic Electronic Components; Manufacturer Part Number: ERJ-3EKF5362V; Supplier 1: Digi-Key; Supplier Part Number 1: P53.6KHCT-ND; Reel Stock: N/A; Last modified by: J.Jaramillo; Last modified date: 20240310; ComponentLink1Description: Digi-Key; ComponentLink1URL: https://www.digikey.com/product-detail/en/panasonic-electronic-components/ERJ-3EKF5362V/P53-6KHCT-ND/198432
footprint 0603 (1608 Metric / 20190222 / N-A.Potosi)
pins: 1, 2

## Res_56k2_0603_1/10W
designator R?, comment value 56k2  (hidden comment: 56k2 1/10W)
RES 56.2K OHM 1% 1/10W 0603; Manufacturer: Stackpole Electronics Inc; Manufacturer Part Number: RMCF0603FT56K2; Supplier 1: Digi-Key; Supplier Part Number 1: RMCF0603FT56K2CT-ND; Reel Stock: N/A; Last modified by: J.Jaramillo; Last modified date: 20240310; ComponentLink1Description: Digi-Key; ComponentLink1URL: https://www.digikey.com/product-detail/en/stackpole-electronics-inc/RMCF0603FT56K2/RMCF0603FT56K2CT-ND/1943105
footprint 0603 (1608 Metric / 20190222 / N-A.Potosi)
pins: 1, 2

## Res_56k_0603_1/10W
designator R?, comment value 56k  (hidden comment: 56k  1/10W)
RES SMD 56k OHM 1% 1/10W 0603; Manufacturer: Yageo; Manufacturer Part Number: RC0603FR-0756KL; Supplier 1: Digi-Key; Supplier Part Number 1: 311-56KHRCT-ND; Reel Stock: N/A; Last modified by: J.Jaramillo; Last modified date: 20240310; ComponentLink1Description: Digi-Key; ComponentLink1URL: https://www.digikey.com/product-detail/en/yageo/RC0603FR-0756KL/311-56KHRCT-ND/2827943
footprint 0603
pins: 1, 2

## Res_56R_0603_1/10W
designator R?, comment value 56R  (hidden comment: 56R 1/10W)
RES SMD 56 OHM 1% 1/10W 0603; Manufacturer: Yageo; Manufacturer Part Number: RC0603FR-0756RL; Reel Stock: N/A; Last modified by: J.Jaramillo; Last modified date: 20240310; ComponentLink1Description: Digi-Key; ComponentLink1URL: https://www.digikey.com/en/products/detail/yageo/RC0603FR-0756RL/727301?s=N4IgTCBcDaIEoGEAMA2JBmAYnAtEg7AKwpwAyIAugL5A; Supplier 1: Digi-Key; Supplier Part Number 1: 311-56.0HRCT-ND
footprint 0603
pins: 1, 2

## Res_57k6_0603_1/10W
designator R?, comment value 57k6  (hidden comment: 57k6 1/10W)
RES SMD 57.6K OHM 1% 1/10W 0603; Manufacturer Part Number: RC0603FR-0757K6L; Manufacturer: Yageo; Reel Stock: N/A; Last modified by: J.Jaramillo; Last modified date: 20240310; ComponentLink1Description: Digi-Key; ComponentLink1URL: https://www.digikey.com/en/products/detail/yageo/RC0603FR-0757K6L/727309?s=N4IgTCBcDaIEoGEAMA2JBmAYnAtEg7AKz4DSKAMiALoC%2BQA; Supplier 1: Digi-Key; Supplier Part Number 1: 311-57.6KHRCT-ND
footprint 0603
pins: 1, 2

## Res_59k_0603_1/10W
designator R?, comment value 59k  (hidden comment: 59k 1/10W)
RES SMD 59K OHM 1% 1/10W 0603; Manufacturer: Panasonic Electronic Components; Manufacturer Part Number: ERJ3EKF5902V; Reel Stock: N/A; Last modified by: J.Jaramillo; Last modified date: 20240310; ComponentLink1Description: Digi-key; ComponentLink1URL: https://www.digikey.com/products/en?keywords=P59.0KHCT-ND; Supplier 1: Digi-Key; Supplier Part Number 1: P59.0KHCT-ND
footprint 0603 (1608 Metric / 20190222 / N-A.Potosi)
pins: 1, 2

## Res_60k4_0402_1/16W
designator R?, comment value 60k4  (hidden comment: 60k4 1/16W)
RES SMD 60.4K OHM 1% 1/16W 0402; Manufacturer: Vishay Dale; Manufacturer Part Number: CRCW040260K4FKED; Supplier 1: Digi-Key; Supplier Part Number 1: 541-60.4KLCT-ND; Reel Stock: N/A; Last modified by: J.Jaramillo; Last modified date: 20240310; ComponentLink1Description: Digi-Key; ComponentLink1URL: https://www.digikey.com/en/products/detail/vishay-dale/CRCW040260K4FKED/1178210
footprint 0402 (1005 Metric / 20190222 / N-A.Potosi)
footprint 0402_RF (1005 Metric / 20190222 / N-A.Potosi)
footprint 0402_RF2 (1005 Metric / 20190222 / N-A.Potosi)
pins: 1, 2

## Res_60k4_0603_1/10W
designator R?, comment value 60k4  (hidden comment: 60k4 1/10W)
RES 60.4K OHM 1% 1/10W 0603; Manufacturer: Vishay Dale; Manufacturer Part Number: CRCW060360K4FKEAC; Supplier 1: Digi-Key; Supplier Part Number 1: 541-5506-1-ND; Reel Stock: N/A; Last modified by: J.Jaramillo; Last modified date: 20240310; ComponentLink1Description: Digi-Key; ComponentLink1URL: https://www.digikey.com/en/products/detail/vishay-dale/CRCW060360K4FKEAC/7924075
footprint 0603 (1608 Metric / 20190222 / N-A.Potosi)
pins: 1, 2

## Res_60R4_0603_1/10W
designator R?  value 60.4R
RES SMD 60.4 OHM 1% 1/10W 0603; Manufacturer: Bourns Inc.; Manufacturer Part Number: CR0603-FX-60R4ELF; Supplier 1: Digi-Key; Supplier Part Number 1: CR0603-FX-60R4ELFCT-ND; Reel Stock: N/A; Last modified by: J.Jaramillo; Last modified date: 20240310
footprint 0603_0.6mm (1608 Metric/20230303/J-A.Sepulveda)
pins: 1, 2

## Res_61k9_0603_1/10W
designator R?, comment value 61k9  (hidden comment: 61k9 1/10W)
RES SMD 61.9K OHM 1% 1/10W 0603; Manufacturer: Bourns Inc.; Manufacturer Part Number: CR0603-FX-6192ELF; ComponentLink1URL: https://www.digikey.com/product-detail/en/bourns-inc/CR0603-FX-6192ELF/CR0603-FX-6192ELFCT-ND/4247824; Reel Stock: N/A; Last modified by: J.Jaramillo; Last modified date: 20240310; ComponentLink1Description: Digi-key; Supplier 1: Digi-Key; Supplier Part Number 1: CR0603-FX-6192ELFCT-ND
footprint 0603 (1608 Metric / 20190222 / N-A.Potosi)
pins: 1, 2

## Res_62k_0603_1/10W
designator R?, comment value 62k  (hidden comment: 62k 1/10W)
RES SMD 62K OHM 1% 1/10W 0603; Manufacturer: Yageo; Manufacturer Part Number: RC0603FR-0762KL; Supplier 1: Digi-Key; Supplier Part Number 1: 311-62.0KHRCT-ND; Reel Stock: N/A; Last modified by: J.Jaramillo; Last modified date: 20240310; ComponentLink1Description: Digi-Key; ComponentLink1URL: https://www.digikey.com/product-detail/en/yageo/RC0603FR-0762KL/311-62.0KHRCT-ND/730283
footprint 0603
pins: 1, 2

## Res_63k4_0603_1/5W
designator R?, comment value 63k4  (hidden comment: 63k4 1/5W)
RES SMD 63.4K OHM 0.1% 1/5W 0603; Manufacturer: Panasonic Electronic Components; Manufacturer Part Number: ERJ-PB3B6342V; Supplier 1: Digi-Key; Supplier Part Number 1: P20178CT-ND; Reel Stock: N/A; Last modified by: J.Jaramillo; Last modified date: 20240310; ComponentLink1Description: Digi-Key; ComponentLink1URL: https://www.digikey.com/en/products/detail/panasonic-electronic-components/ERJ-PB3B6342V/6212961?s=N4IgTCBcDaIKICUBSBaACgIQMwYGxYBYwA1EAXQF8g
footprint 0603
pins: 1, 2